# Altium schematic symbol library FAST-DIODES.Schlib: 1 symbol
Pins are listed as number, name and electrical type; pins without a type are passive.

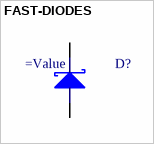
[diagram p0: symbol FAST-DIODES]

## FAST-DIODES
designator D?
=Description
pins: 1 C, 2 A